# EAGLE library part 750313995 (library Wurth_Power Magnetics_WE-IBTI)
WE-IBTI Isolated Buck Transformers Characteristics Flybuck™ topology Operating Temp: -40°C to +125°C Excellent leakage inductance and interwinding capacitance performance Applications Industrial Programmable Logic Controllers (PLCs) Building automation and process control Isolated interface power: RS-422, RS-485, CAN, I2C, LAN Motor drive control, inverters and industrial automation Isolated low power drivers & regulators, smart e-meters Bias power supplies for gate drives and op-amps <https://www.we-online.com/components/media/o790826v209%20family-MID-IBTI.1673.jpg> Details see: www.we-online.com/en/components/products/WE-IBTI <www.we-online.com/catalog/WE-IBTI/?utm_source=eagle_model&utm_medium=description_link&utm_campaign=eisos_eagle> Created by Ella Wu 2024-06-07 2024 (C) Wurth Elektronik
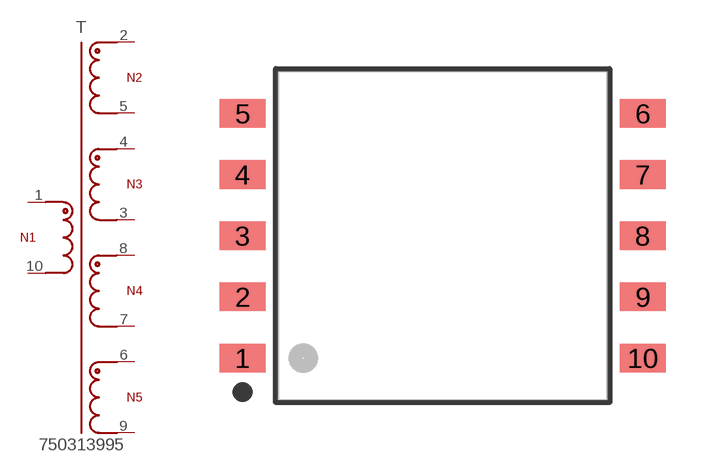
[diagram p23: symbol with the pads of WE-IBTI_EP13_L13.46W17.75H12.7; footprint WE-IBTI_EP13_L13.46W17.75H12.7]

Designator prefix T

## 750313995 (DATASHEET-URL: https://www.we-online.com/redexpert/spec/750313995?ae; FSWITCH: 300 - 600kHz; HEIGHT: 12.7mm; IOUT1: 50mA; IOUT2: 100mA; IOUT3: 100mA; IOUT4: 50mA; ISAT: 1.5A; L: 50uH; LENGTH: 13.46mm; LS: 260nH; MOUNT: SMT; N: 1.5:1:1:2:2; PART-NUMBER: 750313995; SIZE: EP13; VALUE: 750313995; VBUCK: 7.8V; VIN: 15 - 40 V (DC); VOUT1: 15V; VOUT2: 5V; VOUT3: 5V; VOUT4: 15V; VT: 1500V(AC); WIDTH: 17.75mm)  [WE-IBTI_EP13_L13.46W17.75H12.7]
1  1  pas
2  2  pas
3  3  pas
4  4  pas
5  5  pas
6  6  pas
7  7  pas
8  8  pas
9  9  pas
10  10  pas

## Footprint WE-IBTI_EP13_L13.46W17.75H12.7 (pad centres in mm)
WE-IBTI Isolated Buck Transformers Size: EP13,SMT,10pins LXWXH=13.46X17.75X12.7mm
smd 1.88 x 1.17: 1 -8.18,-5; 2 -8.18,-2.5; 3 -8.18,0; 4 -8.18,2.5; 5 -8.18,5; 6 8.18,5; 7 8.18,2.5; 8 8.18,0; 9 8.18,-2.5; 10 8.18,-5